# EAGLE library part MAX238 (library Radicon)
RS232 TRANSEIVER
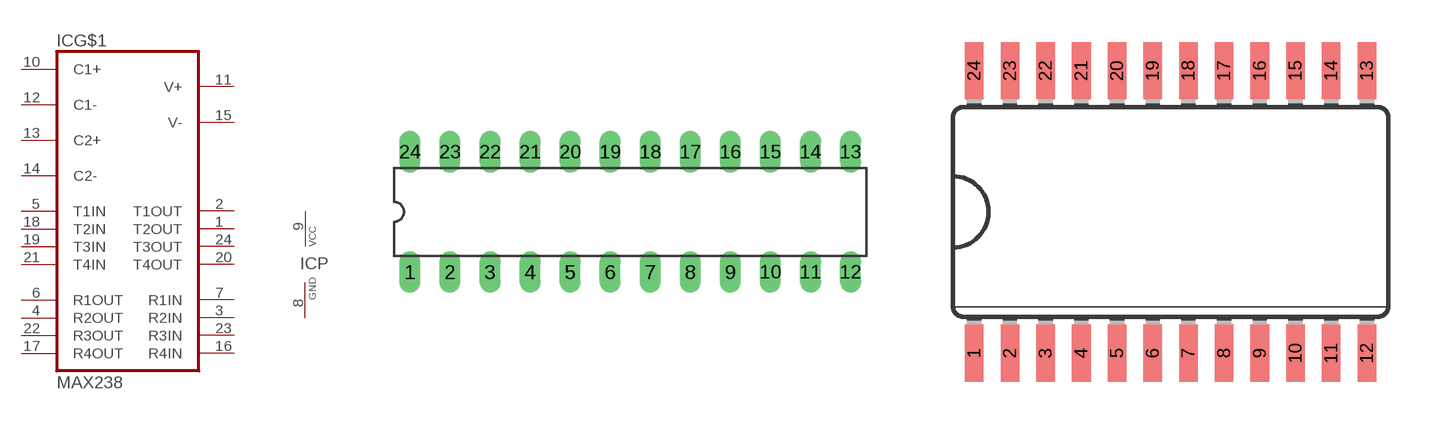
[diagram p37: symbol with the pads of DIL24-3; footprints DIL24-3, SO24L]

Designator prefix IC; gates G$1=MAX238 P=VCC-GND

## MAX238DIL  [DIL24-3]
1  G$1:T2OUT  out
2  G$1:T1OUT  out
3  G$1:R2IN  in
4  G$1:R2OUT  out
5  G$1:T1IN  in
6  G$1:R1OUT  out
7  G$1:R1IN  in
8  P:GND  pwr
9  P:VCC  pwr
10  G$1:C1+
11  G$1:V+
12  G$1:C1-
13  G$1:C2+
14  G$1:C2-
15  G$1:V-
16  G$1:R4IN  in
17  G$1:R4OUT  out
18  G$1:T2IN  in
19  G$1:T3IN  in
20  G$1:T4OUT  out
21  G$1:T4IN  in
22  G$1:R3OUT  out
23  G$1:R3IN  in
24  G$1:T3OUT  out

## MAX238SO  [SO24L]
Pads as for DIL24-3

## Footprint DIL24-3 (pad centres in mm)
Dual In Line Package 0.3 inch
drill 0.813 long: 1 -13.97,-3.81; 2 -11.43,-3.81; 3 -8.89,-3.81; 4 -6.35,-3.81; 5 -3.81,-3.81; 6 -1.27,-3.81; 7 1.27,-3.81; 8 3.81,-3.81; 9 6.35,-3.81; 10 8.89,-3.81; 11 11.43,-3.81; 12 13.97,-3.81; 13 13.97,3.81; 14 11.43,3.81; 15 8.89,3.81; 16 6.35,3.81; 17 3.81,3.81; 18 1.27,3.81; 19 -1.27,3.81; 20 -3.81,3.81; 21 -6.35,3.81; 22 -8.89,3.81; 23 -11.43,3.81; 24 -13.97,3.81

## Footprint SO24L (pad centres in mm)
Small Outline Package
smd 0.66 x 2.032: 1 -6.985,-5.029; 2 -5.715,-5.029; 3 -4.445,-5.029; 4 -3.175,-5.029; 5 -1.905,-5.029; 6 -0.635,-5.029; 7 0.635,-5.029; 8 1.905,-5.029; 9 3.175,-5.029; 10 4.445,-5.029; 11 5.715,-5.029; 12 6.985,-5.029; 13 6.985,5.029; 14 5.715,5.029; 15 4.445,5.029; 16 3.175,5.029; 17 1.905,5.029; 18 0.635,5.029; 19 -0.635,5.029; 20 -1.905,5.029; 21 -3.175,5.029; 22 -4.445,5.029; 23 -5.715,5.029; 24 -6.985,5.029